# Altium schematic symbol library SG3525AN.SchLib: 1 symbol
Pins are listed as number, name and electrical type; pins without a type are passive.

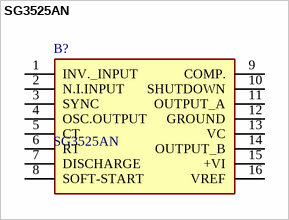
[diagram p0: symbol SG3525AN]

## SG3525AN
designator B?
REGULATING PULSE WIDTH MODULATORS; Manufacturer_Name: STMicroelectronics; Geometry.Height: 5.1mm; Manufacturer_Part_Number: SG3525AN; Mouser Part Number: 511-SG3525AN; Mouser Price/Stock: https://www.mouser.co.uk/ProductDetail/STMicroelectronics/SG3525AN?qs=lgHKUCmDFthRkkwDjx3E7g%3D%3D; Arrow Part Number: SG3525AN; Arrow Price/Stock: https://www.arrow.com/en/products/sg3525an/stmicroelectronics?region=nac; Datasheet Link: http://componentsearchengine.com/Datasheets/3/SG3525AN.pdf
footprint DIP850W50P254L2000H510Q16N
pins: 1 INV._INPUT, 2 N.I.INPUT, 3 SYNC, 4 OSC.OUTPUT, 5 CT, 6 RT, 7 DISCHARGE, 8 SOFT-START, 9 COMP., 10 SHUTDOWN, 11 OUTPUT_A, 12 GROUND, 13 VC, 14 OUTPUT_B, 15 +VI, 16 VREF